# Altium schematic symbol library DMN1019USN-13.SchLib: 1 symbol
Pins are listed as number, name and electrical type; pins without a type are passive.

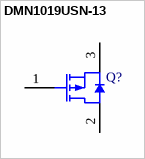
[diagram p0: symbol DMN1019USN-13]

## DMN1019USN-13
designator Q?, comment MOSFET-NPN  (value not drawn)
Manufacturer: Diodes Inc.; PartNumber: DMN1019USN-13; PartDescription: MOSFET N-CH 12V 9.3A SC59; Channel Mode: Enhancement; Channel Type: P; Transistor Material: Si; Typical Turn-Off Delay Time: 38ns; Number of Elements per Chip: 1; Typical Turn-On Delay Time: 11ns; Typical Gate Charge @ Vgs: 12nC@4.5V; Transistor Configuration: Single; Typical Input Capacitance @ Vds: 1138pF@6V; Mounting Type: SurfaceMount; Mounting Technology: SurfaceMount; Category: PowerMOSFET; Package Reference: SC-59; Width: 1.4mm; Pin Count: 3; Supplier 1: Digi-Key; Supplier Part Number 1: DMN1019USN-13DICT-ND
footprint SC59
pins: 1 GATE, 2 SOURCE, 3 DRAIN